# Altium footprint library con-conrad.PCBLIB: 7 footprints
Each footprint in its own frame and in the unit in brackets; x right, y up, seen from the top. Pads: shape width x height; smd on the part's side, far side on the other; paste and mask are expansions set on the pad; w line width, h text height; cw(c..) or ccw(c..) is an arc to the next point about the centre after c.
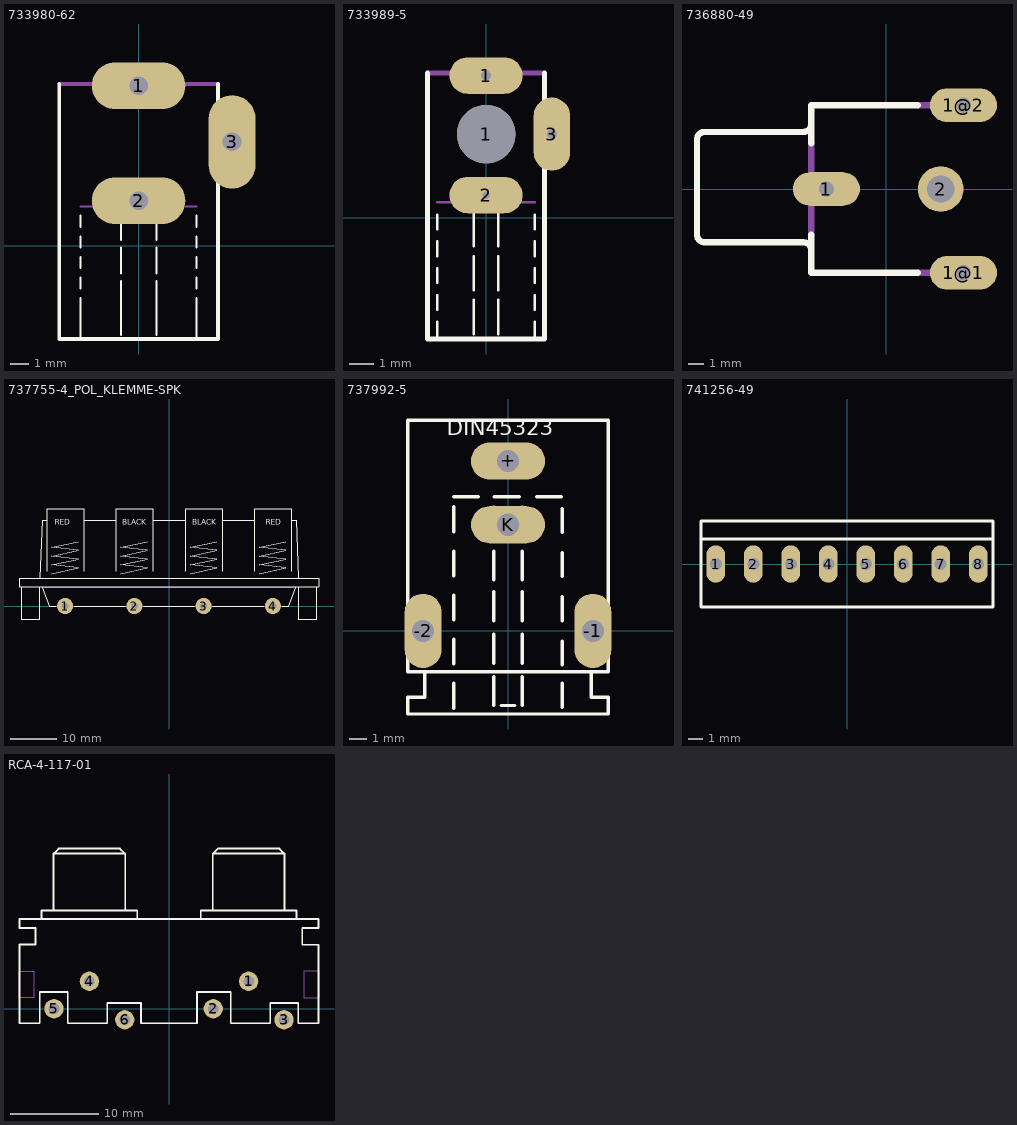
[diagram p0: the footprints below, top view; thin cyan lines are the x and y axes]

## 733980-62 [mm]
pads (3):
  oval 5x2.5 hole 1: 1(0,8.57) 2(0,2.42)
  oval 2.5x5 hole 1: 3(5,5.57)
Top Overlay:
  lines w0.102: -3.1,-4.878 -3.1,-2.78 ; -3.1,-2.28 -3.1,-1.68 ; -3.1,-1.18 -3.1,-0.58 ; -3.1,-0.08 -3.1,0.52 ; -3.1,1.02 -3.1,1.62 ; -0.95,-4.779 -0.95,-1.88 ; -0.95,-1.48 -0.95,-0.08 ; -0.95,0.32 -0.95,1.72 ; 0.95,-4.779 0.95,-1.88 ; 0.95,-1.48 0.95,-0.08 ; 0.95,0.32 0.95,1.72 ; 3.1,-4.878 3.1,-2.78 ; 3.1,-2.28 3.1,-1.68 ; 3.1,-1.18 3.1,-0.58 ; 3.1,-0.08 3.1,0.52 ; 3.1,1.02 3.1,1.62
  lines w0.203: -4.25,8.67 -4.25,-4.978 4.25,-4.978 4.25,8.67
Mechanical 11:
  lines w0: -1.6,1.92 1.6,1.92 1.6,2.92 -1.6,2.92 -1.6,1.92 ; -1.6,8.07 1.6,8.07 1.6,9.07 -1.6,9.07 -1.6,8.07 ; 4.5,3.97 5.5,3.97 5.5,7.17 4.5,7.17 4.5,3.97
Mechanical 16:
  lines w0.102: -3.1,2.12 -2.5,2.12 ; -2,2.12 -1.4,2.12 ; -0.9,2.12 -0.3,2.12 ; 0.4,2.12 1,2.12 ; 1.4,2.12 2,2.12 ; 2.5,2.12 3.1,2.12
  lines w0.203: -4.25,8.67 4.25,8.67

## 733989-5 [mm]
pads (4):
  round 2.4 hole 2.4: 1(0,3.42)
  oval 3x1.5 hole 0.4: 1(0,5.82)
  oval 3x1.5 hole 0.3: 2(0,0.92)
  oval 1.5x3 hole 0.4: 3(2.7,3.42)
Top Overlay:
  lines w0.102: -2,-4.88 -2,-4.28 ; -2,-3.78 -2,-3.18 ; -2,-2.68 -2,-2.08 ; -2,-1.58 -2,-0.98 ; -2,-0.48 -2,0.12 ; -0.5,-4.78 -0.5,-3.38 ; -0.5,-2.98 -0.5,-1.58 ; -0.5,-1.18 -0.5,0.22 ; 0.5,-4.78 0.5,-3.38 ; 0.5,-2.98 0.5,-1.58 ; 0.5,-1.18 0.5,0.22 ; 2,-4.88 2,-4.28 ; 2,-3.78 2,-3.18 ; 2,-2.68 2,-2.08 ; 2,-1.58 2,-0.98 ; 2,-0.48 2,0.12
  lines w0.203: -2.4,5.92 -2.4,-4.98 2.4,-4.98 2.4,5.92
Mechanical 11:
  lines w0: -1.1,5.57 1.1,5.57 1.1,6.07 -1.1,6.07 -1.1,5.57 ; -1,0.77 1,0.77 1,1.07 -1,1.07 -1,0.77 ; 2.5,2.82 2.9,2.82 2.9,4.02 2.5,4.02 2.5,2.82
Mechanical 16:
  lines w0.102: -2,0.62 -1.4,0.62 ; -0.8,0.62 -0.2,0.62 ; 0.4,0.62 1,0.62 ; 1.4,0.62 2,0.62
  lines w0.203: -2.4,5.92 2.4,5.92

## 736880-49 [mm]
pads (4):
  oval 4.4x2.2 hole 1: 1(-3.92,0) 1@1(5.08,-5.5) 1@2(5.08,5.5)
  round 3 hole 1.8: 2(3.58,0)
Top Overlay:
  lines w0.41: -4.92,-3 -4.92,-4 ; -4.92,3 -4.92,4.25 ; 2.08,-5.5 -4.92,-5.5 -4.92,-4 ; 2.08,5.5 -4.92,5.5 -4.92,4.25 ; -4.92,-4 ccw(c-5.42,-4) -5.42,-3.5 -11.92,-3.5 cw(c-11.92,-3) -12.42,-3 -12.42,3.25 cw(c-11.92,3.25) -11.92,3.75 -5.42,3.75 ccw(c-5.42,4.25) -4.92,4.25
Mechanical 11:
  lines w0: -5.025,-0.5 -2.725,-0.5 -2.725,0.5 -5.025,0.5 -5.025,-0.5 ; 3.975,-6 6.275,-6 6.275,-5 3.975,-5 3.975,-6 ; 3.975,5 6.275,5 6.275,6 3.975,6 3.975,5
Mechanical 16:
  lines w0.41: -4.92,-3 -4.92,3 ; 2.08,-5.5 6.08,-5.5 ; 2.08,5.5 6.08,5.5

## 737755-4_POL_KLEMME-SPK [mil]
pads (4):
  round 137.8 hole 59.06: 1(-885.83,0) 2(-295.28,0) 3(295.28,0) 4(885.83,0)
Top Overlay:
  lines w6: -1082.68,157.48 -1023.62,0 -964.57,0 ; -1000,275 -775,325 -1000,350 -775,400 -1000,425 -775,475 -1000,500 -775,550 ; -807.09,0 -374.02,0 ; -409.45,275 -184.45,325 -409.45,350 -184.45,400 -409.45,425 -184.45,475 -409.45,500 -184.45,550 ; -216.54,0 216.54,0 ; 181.1,275 406.1,325 181.1,350 406.1,400 181.1,425 406.1,475 181.1,500 406.1,550 ; 374.02,0 807.09,0 ; 771.65,275 996.65,325 771.65,350 996.65,400 771.65,425 996.65,475 771.65,500 996.65,550 ; 964.57,0 1023.62,0 1082.68,157.48
  lines w8: -1259.84,160.43 -1259.84,-114.17 -1102.36,-114.17 -1102.36,160.43 ; -1102.36,239.17 -1082.68,732.28 -1045.28,732.28 ; -1043.31,295.28 -1043.31,830.71 -728.35,830.71 -728.35,295.28 ; -727.36,732.28 -453.74,732.28 ; -452.76,295.28 -452.76,830.71 -137.8,830.71 -137.8,295.28 ; -135.83,732.28 135.83,732.28 ; 137.8,295.28 137.8,830.71 452.76,830.71 452.76,295.28 ; 453.74,732.28 727.36,732.28 ; 728.35,295.28 728.35,830.71 1043.31,830.71 1043.31,295.28 ; 1045.28,732.28 1083.66,732.28 1102.36,239.17 ; 1102.36,161.42 1102.36,-114.17 1259.84,-114.17 1259.84,161.42 ; -1279.53,163.39 -1279.53,236.22 1279.53,236.22 1279.53,163.39 -1279.53,163.39
  text "RED" at -975,675 h77.5
  text "RED" at 825,675 h77.5
  text "BLACK" at -400,675 h77.5
  text "BLACK" at 200,675 h77.5
Mechanical 1:
  lines w0: -1062.99,159.45 1062.99,159.45
Mechanical 16:
  lines w6: -1023.62,0 1023.62,0

## 737992-5 [mil]
pads (4):
  oval 172x86 hole 51.18: +(0,393.7) K(0,246.06)
  oval 86x172 hole 51.18: -1(196.85,0) -2(-196.85,0)
Top Overlay:
  lines w8: -232.28,-39.37 -232.28,-94.49 -192.91,-94.49 ; -232.28,41.34 -232.28,488.19 232.28,488.19 232.28,41.34 ; -125.98,-179.13 -125.98,-122.05 ; -125.98,-76.77 -125.98,-19.69 ; -125.98,25.59 -125.98,82.68 ; -125.98,127.95 -125.98,185.04 ; -125.98,230.32 -125.98,287.4 ; -125.98,311.02 -68.9,311.02 ; -33.46,-173.23 -33.46,-106.3 ; -33.46,-74.8 -33.46,-7.87 ; -33.46,23.62 -33.46,90.55 ; -33.46,118.11 -33.46,185.04 ; -31.5,311.02 25.59,311.02 ; -15.75,-173.23 15.75,-173.23 ; 33.46,-173.23 33.46,-106.3 ; 33.46,-74.8 33.46,-7.87 ; 33.46,23.62 33.46,90.55 ; 33.46,118.11 33.46,185.04 ; 66.93,311.02 124.02,311.02 ; 125.98,-177.17 125.98,-122.05 ; 125.98,-78.74 125.98,-23.62 ; 125.98,23.62 125.98,78.74 ; 125.98,125.98 125.98,181.1 ; 125.98,228.35 125.98,283.46 ; 232.28,-39.37 232.28,-94.49 192.91,-94.49 ; -192.91,-94.49 -192.91,-153.54 -232.28,-153.54 -232.28,-192.91 232.28,-192.91 232.28,-153.54 192.91,-153.54 192.91,-94.49 ; -192.91,-94.49 192.91,-94.49
  text "DIN45323" at -141.73,440.94 h62
Mechanical 16:
  lines w8: -232.28,-39.37 -232.28,41.34 ; -33.46,220.47 -33.46,287.4 ; 33.46,220.47 33.46,287.4 ; 232.28,-39.37 232.28,41.34

## 741256-49 [mil]
pads (8):
  oval 50x100 hole 32: 1(-350,0) 2(-250,0) 3(-150,0) 4(-50,0) 5(50,0) 6(150,0) 7(250,0) 8(350,0)
Top Overlay:
  lines w8: -385.83,66.93 385.83,66.93 ; -389.76,-114.17 389.76,-114.17 389.76,114.17 -389.76,114.17 -389.76,-114.17

## RCA-4-117-01 [mil]
pads (6):
  round 86 hole 47.24: 1(354.33,122.05) 2(196.85,0) 3(511.81,-49.21) 4(-354.33,122.05) 5(-511.81,0) 6(-196.85,-49.21)
Top Overlay:
  lines w8: -195.87,689.99 -218.35,712.48 -482.59,712.48 -491.02,712.48 -513.51,689.99 ; -566.92,399.52 -566.92,437 -513.51,437 ; -566.92,399.52 -665.38,399.52 -665.38,359.23 -594.43,359.23 -594.43,285.2 -665.35,285.2 -665.35,-64.96 -575,-64.96 -575,75 -450,75 -450,-64.96 -275,-64.96 -275,25 -125,25 -125,-64.96 125,-64.96 125,75 275,75 275,-64.96 450,-64.96 450,25 475,25 525,25 575,25 575,-64.96 665.35,-64.96 665.35,284.27 592.56,284.27 592.56,359.23 665.38,359.23 665.38,399.52 566.92,399.52 ; -566.92,399.52 -141.52,399.52 ; -513.51,437 -513.51,689.99 ; -513.51,437 -194.93,437 ; -513.51,689.99 -194.93,689.99 -194.93,437 ; -194.93,437 -141.52,437 -141.52,399.52 ; -141.52,399.52 141.52,399.52 ; -141.52,399.52 141.52,399.52 ; 141.52,399.52 141.52,437 193.99,437 ; 141.52,399.52 566.92,399.52 ; 193.99,437 194.93,437 ; 193.99,437 194.93,437 ; 193.99,437 194.93,437 ; 194.93,437 194.93,689.99 ; 194.93,437 513.51,437 ; 194.93,689.99 497.58,689.99 513.51,689.99 ; 194.93,689.99 217.42,712.48 225.85,712.48 491.02,712.48 513.51,689.99 ; 513.51,437 566.92,437 566.92,399.52 ; 513.51,437 513.51,689.99
Mechanical 1:
  lines w0: -667.32,49.21 -601.38,49.21 -601.38,167.32 -667.32,167.32 -667.32,49.21 ; 600.39,49.21 600.39,167.32 667.32,167.32 667.32,49.21 600.39,49.21